# Altium footprint library Drivers.PcbLib: 19 footprints (part 1 of 2)
Each footprint in its own frame and in the unit in brackets; x right, y up, seen from the top. Pads: shape width x height; smd on the part's side, far side on the other; paste and mask are expansions set on the pad; w line width, h text height; cw(c..) or ccw(c..) is an arc to the next point about the centre after c.
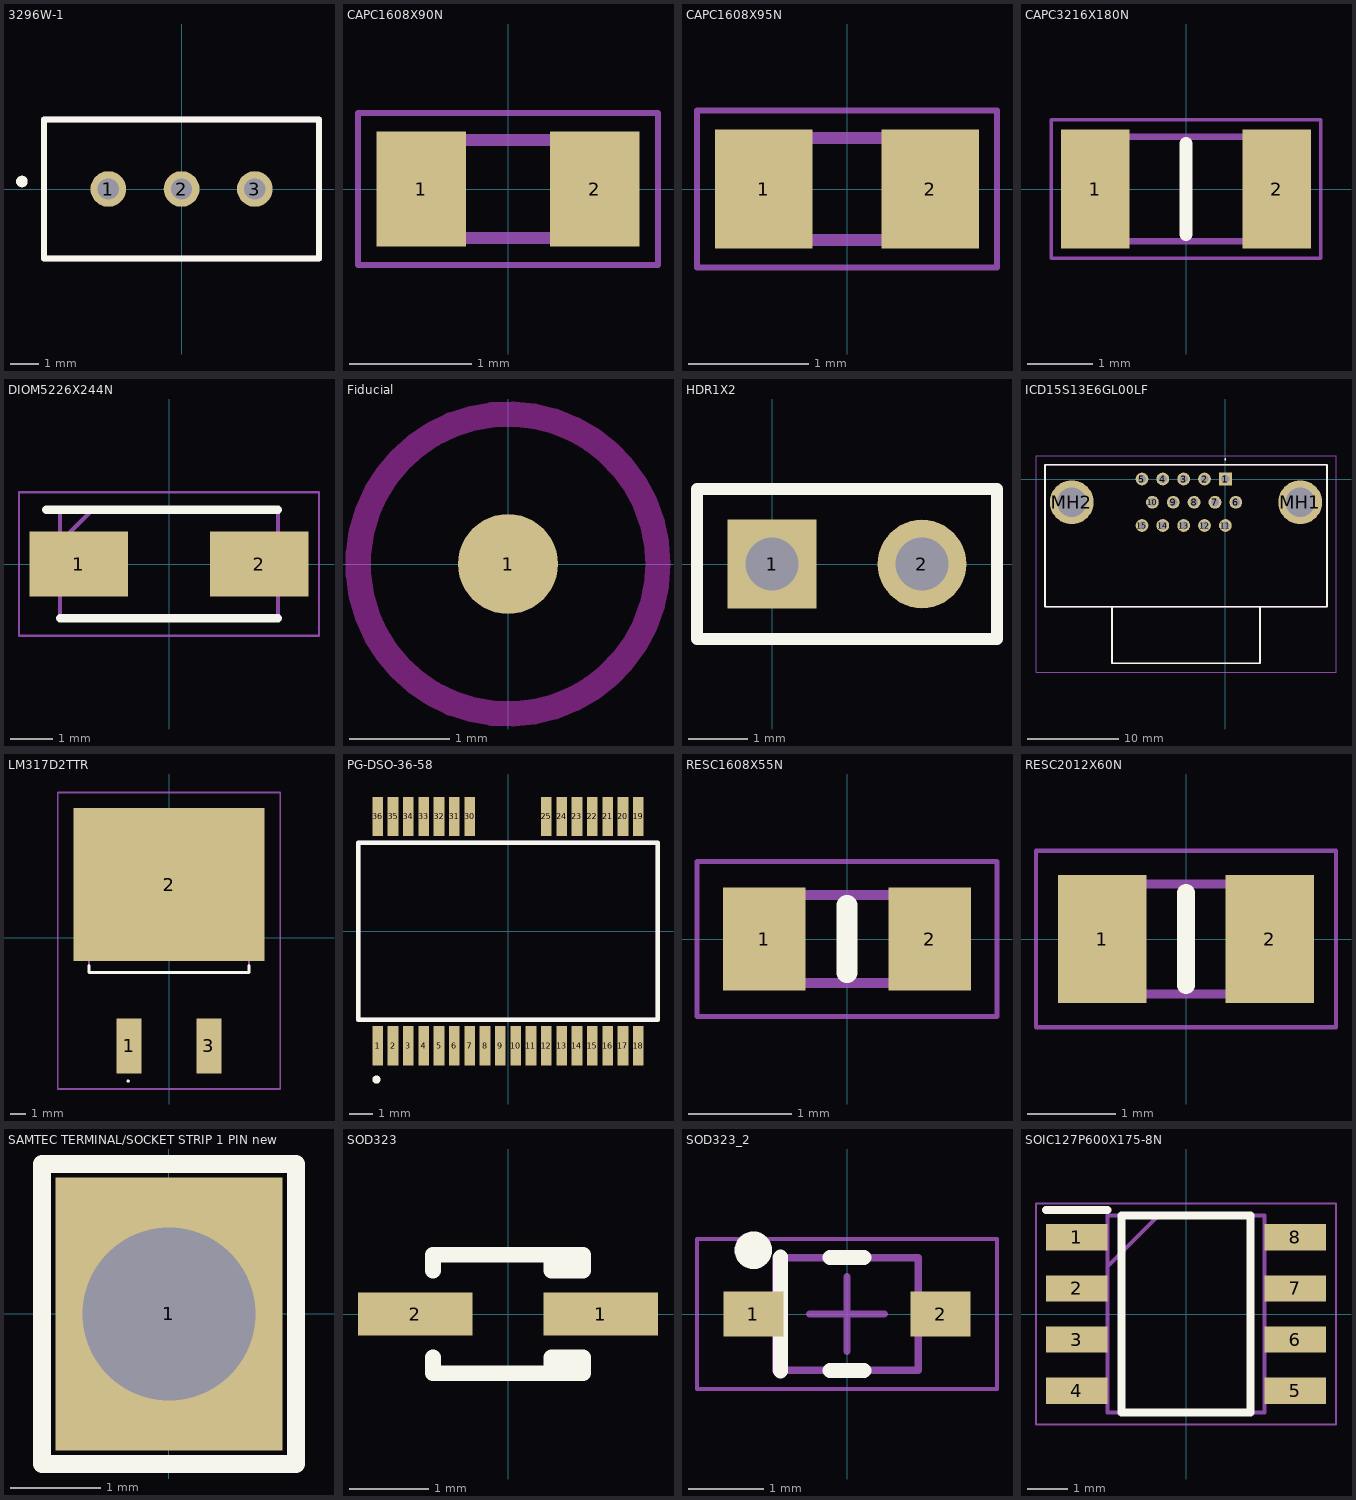
[diagram p0: the footprints below, top view; thin cyan lines are the x and y axes]

## 3296W-1 [mm]
height 6.86
pads (3):
  round 1.24 hole 0.74: 1(-2.54,0) 2(0,0) 3(2.54,0)
Top Overlay:
  circle w0.2: c-5.536,0.26 r0.1
  lines w0.2: -4.765,-2.41 4.765,-2.41 4.765,2.41 -4.765,2.41 -4.765,-2.41
Mechanical 13:
  lines w0.2: -4.765,-2.41 4.765,-2.41 4.765,2.41 -4.765,2.41 -4.765,-2.41
3D body "3296W-1-502LF.stp": height 11.55, standoff -3.01, extent -4.775,-2.476 4.775,2.35

## CAPC1608X90N [mm]
height 6.86
pads (2):
  rect 0.73x0.94 smd: 1(-0.71,0) 2(0.71,0)
Mechanical 13:
  lines w0.1: -0.8,-0.4 0.8,-0.4 0.8,0.4 -0.8,0.4 -0.8,-0.4
Mechanical 15:
  lines w0.05: -1.225,-0.62 1.225,-0.62 1.225,0.62 -1.225,0.62 -1.225,-0.62
3D body "CL10B105KA8NNNC.stp": height 0.9, standoff 0, extent -0.8,-0.4 0.8,0.4

## CAPC1608X95N [mm]
height 6.86
pads (2):
  rect 0.81x0.99 smd: 1(-0.69,0) 2(0.69,0)
Mechanical 13:
  lines w0.1: -0.825,-0.425 0.825,-0.425 0.825,0.425 -0.825,0.425 -0.825,-0.425
Mechanical 15:
  lines w0.05: -1.245,-0.65 1.245,-0.65 1.245,0.65 -1.245,0.65 -1.245,-0.65
3D body "EMK107B7104KA-T.stp": height 0.95, standoff 0, extent -0.825,-0.425 0.825,0.425

## CAPC3216X180N [mm]
height 6.86
pads (2):
  rect 1.05x1.82 smd: 1(-1.39,0) 2(1.39,0)
Top Overlay:
  lines w0.2: 0,-0.7 0,0.7
Mechanical 13:
  lines w0.1: -1.6,-0.8 1.6,-0.8 1.6,0.8 -1.6,0.8 -1.6,-0.8
Mechanical 15:
  lines w0.05: -2.065,-1.06 2.065,-1.06 2.065,1.06 -2.065,1.06 -2.065,-1.06
3D body "CL31A107MQHNNWE.stp": height 1.8, standoff 0, extent -1.6,-0.8 1.6,0.8

## DIOM5226X244N [mm]
pads (2):
  rect 2.35x1.55 smd: 1(-2.15,0) 2(2.15,0)
Top Overlay:
  lines w0.2: -2.925,1.292 2.598,1.292 ; -2.598,-1.292 2.598,-1.292
Mechanical 13:
  lines w0.1: -2.598,0.518 -1.822,1.292 ; -2.598,-1.292 -2.598,1.292 2.598,1.292 2.598,-1.292 -2.598,-1.292
Mechanical 15:
  lines w0.05: -3.575,-1.71 -3.575,1.71 3.575,1.71 3.575,-1.71 -3.575,-1.71
3D body "ES1J-LTP.stp": height 2.29, standoff 0.03, extent -2.675,-1.425 2.725,1.375

## Fiducial [mm]
height 6.86
pads (1):
  round 1 smd paste-1 mask+1: 1(0,0)
Top Layer keep-out:
  circle w0.254: c0,0 r1.5

## HDR1X2 [mm] "Connector; Header; 2 Position"
height 6.86
pads (2):
  rect 1.5x1.5 hole 0.9: 1(0,0)
  round 1.5 hole 0.9: 2(2.54,0)
Top Overlay:
  lines w0.2: -1.27,-1.27 3.81,-1.27 3.81,1.27 -1.27,1.27 -1.27,-1.27

## ICD15S13E6GL00LF [mm]
pads (17):
  rect 1.4x1.4 hole 0.9: 1(0,0)
  round 1.4 hole 0.9: 2(-2.28,0) 3(-4.56,0) 4(-6.84,0) 5(-9.12,0) 6(1.14,-2.54) 7(-1.14,-2.54) 8(-3.42,-2.54) 9(-5.7,-2.54) 10(-7.98,-2.54) 11(0,-5.08) 12(-2.28,-5.08) 13(-4.56,-5.08) 14(-6.84,-5.08) 15(-9.12,-5.08)
  round 4.8 hole 3.2: MH1(8.19,-2.54) MH2(-16.8,-2.54)
Top Overlay:
  lines w0.1: 0,2.1 cw(c0,2.15) 0,2.2 cw(c0,2.15) 0,2.1
  lines w0.2: -12.41,-13.97 -12.41,-20.14 3.8,-20.14 3.8,-13.97 ; -19.71,-13.97 -19.71,1.56 11.1,1.56 11.1,-13.97 -19.71,-13.97
Mechanical 13:
  lines w0.1: -12.41,-13.97 -12.41,-20.14 3.8,-20.14 3.8,-13.97 ; -19.71,-13.97 -19.71,1.56 11.1,1.56 11.1,-13.97 -19.71,-13.97
Mechanical 15:
  lines w0.1: -20.71,-21.14 -20.71,2.56 12.1,2.56 12.1,-21.14 -20.71,-21.14
3D body "ICD15S13E6GL00LF.stp": height 12.55, standoff -3.2, extent -19.805,-20.02 11.195,1.56

## LM317D2TTR [mm]
height 6.86
pads (3):
  rect 1.6x3.5 smd: 1(-2.54,-6.908) 3(2.54,-6.908)
  rect 12.2x9.75 smd: 2(0,3.367)
Top Overlay:
  lines w0.1: -2.6,-9.2 cw(c-2.6,-9.15) -2.6,-9.1 cw(c-2.6,-9.15) -2.6,-9.2
  lines w0.2: -5.1,-1.8 -5.1,-2.242 5.1,-2.242 5.1,-1.8
Mechanical 13:
  lines w0.1: -5.1,-2.242 -5.1,6.908 5.1,6.908 5.1,-2.242 -5.1,-2.242
Mechanical 15:
  lines w0.1: -7.1,-9.658 -7.1,9.243 7.1,9.243 7.1,-9.658 -7.1,-9.658
3D body "LM317D2T-TR.stp": height 4.6, standoff -0.05, extent -5.194,-8.103 5.194,5.375

## PG-DSO-36-58 [mm]
height 6.86
pads (32):
  rect 0.45x1.67 smd: 1(-5.525,-4.865) 2(-4.875,-4.865) 3(-4.225,-4.865) 4(-3.575,-4.865) 5(-2.925,-4.865) 6(-2.275,-4.865) 7(-1.625,-4.865) 8(-0.975,-4.865) 9(-0.325,-4.865) 10(0.325,-4.865) 11(0.975,-4.865) 12(1.625,-4.865) 13(2.275,-4.865) 14(2.925,-4.865) 15(3.575,-4.865) 16(4.225,-4.865) 17(4.875,-4.865) 18(5.525,-4.865) 19(5.525,4.865) 20(4.875,4.865) 21(4.225,4.865) 22(3.575,4.865) 23(2.925,4.865) 24(2.275,4.865) 25(1.625,4.865) 30(-1.625,4.865) 31(-2.275,4.865) 32(-2.925,4.865) 33(-3.575,4.865) 34(-4.225,4.865) 35(-4.875,4.865) 36(-5.525,4.865)
Top Overlay:
  circle w0.2: c-5.577,-6.289 r0.073
  lines w0.2: -6.35,-3.75 -6.35,3.75 6.35,3.75 6.35,-3.75 -6.35,-3.75
Mechanical 13:
  lines w0.2: -6.35,-3.75 6.35,-3.75 6.35,3.75 -6.35,3.75 -6.35,-3.75

## RESC1608X55N [mm]
height 6.86
pads (2):
  rect 0.8x1 smd: 1(-0.8,0) 2(0.8,0)
Top Overlay:
  lines w0.2: 0,-0.325 0,0.325
Mechanical 13:
  lines w0.1: -0.8,-0.425 -0.8,0.425 0.8,0.425 0.8,-0.425 -0.8,-0.425
Mechanical 15:
  lines w0.05: -1.45,-0.75 -1.45,0.75 1.45,0.75 1.45,-0.75 -1.45,-0.75
3D body "RMC1_16K1002FTP.stp": height 0.55, standoff 0, extent -0.8,-0.425 0.8,0.425

## RESC2012X60N [mm]
height 6.86
pads (2):
  rect 1x1.45 smd: 1(-0.95,0) 2(0.95,0)
Top Overlay:
  lines w0.2: 0,-0.525 0,0.525
Mechanical 13:
  lines w0.1: -1,-0.625 1,-0.625 1,0.625 -1,0.625 -1,-0.625
Mechanical 15:
  lines w0.05: -1.7,-1 1.7,-1 1.7,1 -1.7,1 -1.7,-1
3D body "CR0805-J_-4R7ELF.stp": height 0.5, standoff 0, extent -1,-0.625 1,0.625

## SAMTEC TERMINAL/SOCKET STRIP 1 PIN new [mm] "Samtec Terminal/Socket Strip; 1 Position; Pitch 2.54mm"
pads (1):
  rect 2.5x3 hole 1.9: 1(0,0)
Top Overlay:
  lines w0.2: -1.397,-1.651 1.397,-1.651 1.397,1.651 -1.397,1.651 -1.397,-1.651

## SOD323 [mm] "SOD-323/SC-76; 2 Leads; Body 1.7 x 1.3 mm, (LxW)"
height 1.1
pads (2):
  rect 1.45x0.55 smd: 1(1.175,0) 2(-1.175,0)
Top Overlay:
  lines w0.2: -0.95,-0.55 -0.95,-0.75 0.95,-0.75 0.95,-0.55 0.55,-0.55 0.55,-0.75 ; -0.95,0.55 -0.95,0.75 0.95,0.75 0.95,0.55 0.55,0.55 0.55,0.75

## SOD323_2 [mm]
pads (2):
  rect 0.8x0.6 smd: 1(-1.25,0) 2(1.25,0)
Top Overlay:
  circle w0.25: c-1.25,0.85 r0.125
  lines w0.2: -0.889,-0.762 -0.889,0.762 ; -0.225,-0.75 0.225,-0.75 ; -0.225,0.75 0.225,0.75
Mechanical 13:
  lines w0.1: -0.95,-0.75 -0.95,0.75 0.95,0.75 0.95,-0.75 -0.95,-0.75
Mechanical 15:
  lines w0.05: -2,-1 -2,1 2,1 2,-1 -2,-1
  lines w0.1: -0.5,0 0.5,0 ; 0,-0.5 0,0.5
3D body: height 1.1, standoff 0.16, extent -0.95,-0.75 0.95,0.75

## SOIC127P600X175-8N [mm]
height 6.86
pads (8):
  rect 1.525x0.65 smd: 1(-2.712,1.905) 2(-2.712,0.635) 3(-2.712,-0.635) 4(-2.712,-1.905) 5(2.712,-1.905) 6(2.712,-0.635) 7(2.712,0.635) 8(2.712,1.905)
Top Overlay:
  lines w0.2: -3.475,2.58 -1.95,2.58 ; -1.6,-2.45 -1.6,2.45 1.6,2.45 1.6,-2.45 -1.6,-2.45
Mechanical 13:
  lines w0.1: -1.95,1.18 -0.68,2.45 ; -1.95,-2.45 -1.95,2.45 1.95,2.45 1.95,-2.45 -1.95,-2.45
Mechanical 15:
  lines w0.05: -3.725,-2.75 -3.725,2.75 3.725,2.75 3.725,-2.75 -3.725,-2.75
3D body "NE555DR.stp": height 1.75, standoff 0, extent -3,-2.45 3,2.45